# EAGLE library part U-BLOX_SAM_M10Q-00B (library u-blox_SAM-M10Q)
u-blox SAM-M10Q The u-blox SAM-M10Q concurrent GNSS patch antenna module benefits from the exceptional performance of the u-blox M10 multi-GNSS engine. The SAM-M10Q module offers high sensitivity and minimal acquisition times in an extremely low power and ultra compact form factor. The SAM-M10Q module utilizes concurrent reception of four GNSS systems (GPS, Galileo, GLONASS, and BeiDou), recognizes multiple constellations simultaneously and provides outstanding positioning accuracy in scenarios where urban canyon or weak signals are involved. For even better and faster positioning improvement, the SAM-M10Q features the u-blox Super-S (Super-Signal) technology, offering great RF sensitivity that can improve the dynamic position accuracy in non-line-of-sight scenarios. The SAM-M10Q also features a front-end SAW filter and an integrated LNA, ensuring excellent out-of-band jamming immunity. It also can detect jamming and spoofing attempts and report them to the host, so that the system can react to such events. The SAM-M10Q uses the latest UBX API, which is supported by SparkFun's u-blox GNSS Arduino Library - v3 <https://github.com/sparkfun/SparkFun_u-blox_GNSS_v3>.
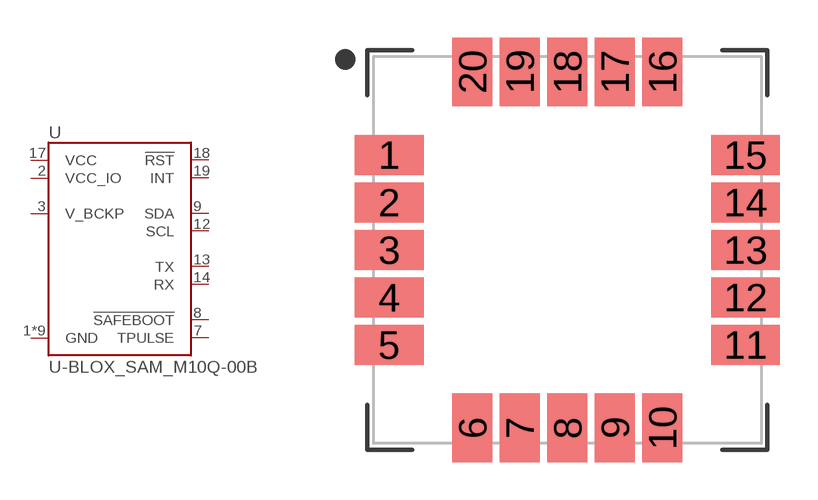
[diagram p0: symbol with the pads of SAM-M10Q_100PASTE; footprint SAM-M10Q_100PASTE]

Designator prefix U

## U-BLOX_SAM_M10Q-00B_100_PASTE (PROD_ID: IC-17910)  [SAM-M10Q_100PASTE]
1  GND
2  VCC_IO
3  V_BCKP
4  GND
5  GND
6  GND
7  TPULSE
8  !SAFEBOOT
9  SDA
10  GND
11  GND
12  SCL
13  TX
14  RX
15  GND
16  GND
17  VCC
18  !RST
19  INT
20  GND

## Footprint SAM-M10Q_100PASTE (pad centres in mm)
SAM-M10Q-00B Physcial Characteristics 15x15x6.3mm Module is a Chip Antenna/GPS Unit combined
smd 2.75 x 1.6: 1 -7.125,3.8; 2 -7.125,1.9; 3 -7.125,0; 4 -7.125,-1.9; 5 -7.125,-3.8; 11 7.125,-3.8; 12 7.125,-1.9; 13 7.125,0; 14 7.125,1.9; 15 7.125,3.8
smd 1.6 x 2.75: 6 -3.8,-7.125; 7 -1.9,-7.125; 8 0,-7.125; 9 1.9,-7.125; 10 3.8,-7.125; 16 3.8,7.125; 17 1.9,7.125; 18 0,7.125; 19 -1.9,7.125; 20 -3.8,7.125